# Altium schematic symbol library SCH - MCU - NUVOTON - NUVOTON NUC122LD2AN.SchLib: 1 symbol
Pins are listed as number, name and electrical type; pins without a type are passive.

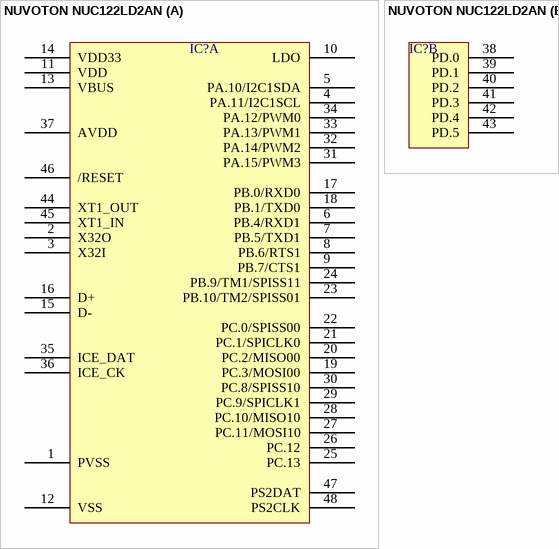
[diagram p0: symbol NUVOTON NUC122LD2AN]

## NUVOTON NUC122LD2AN
designator IC?  (value not drawn)
part A pins: 1 PVSS, 2 X32O, 3 X32I, 4 PA.11/I2C1SCL, 5 PA.10/I2C1SDA, 6 PB.4/RXD1, 7 PB.5/TXD1, 8 PB.6/RTS1, 9 PB.7/CTS1, 10 LDO, 11 VDD, 12 VSS, 13 VBUS, 14 VDD33, 15 D-, 16 D+, 17 PB.0/RXD0, 18 PB.1/TXD0, 19 PC.3/MOSI00, 20 PC.2/MISO00, 21 PC.1/SPICLK0, 22 PC.0/SPISS00, 23 PB.10/TM2/SPISS01, 24 PB.9/TM1/SPISS11, 25 PC.13, 26 PC.12, 27 PC.11/MOSI10, 28 PC.10/MISO10, 29 PC.9/SPICLK1, 30 PC.8/SPISS10, 31 PA.15/PWM3, 32 PA.14/PWM2, 33 PA.13/PWM1, 34 PA.12/PWM0, 35 ICE_DAT, 36 ICE_CK, 37 AVDD, 44 XT1_OUT, 45 XT1_IN, 46 /RESET, 47 PS2DAT, 48 PS2CLK
part B pins: 38 PD.0, 39 PD.1, 40 PD.2, 41 PD.3, 42 PD.4, 43 PD.5